# EAGLE library part LM74700QDBVRQ1 (library LM74700QDBVRQ1)
Low Iq, ideal diode controller Source: Datasheet <http://www.ti.com/lit/gpn/LM74700-Q1>
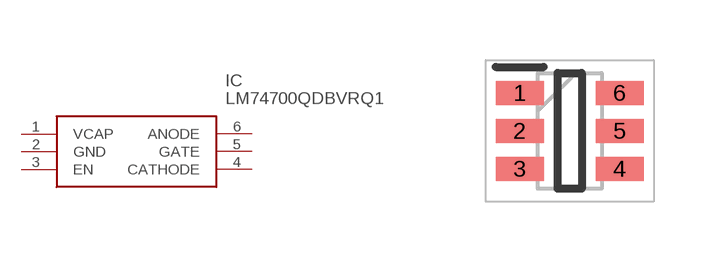
[diagram p0: symbol with the pads of SOT95P280X145-6N; footprint SOT95P280X145-6N]

Designator prefix IC

## LM74700QDBVRQ1 (Description: Low Iq, ideal diode controller; Height: 1.45mm; Manufacturer_Name: Texas Instruments; Manufacturer_Part_Number: LM74700QDBVRQ1; Mouser_Part_Number: 595-LM74700QDBVRQ1; Mouser_Price-Stock: https://www.mouser.co.uk/ProductDetail/Texas-Instruments/LM74700QDBVRQ1?qs=j%252B1pi9TdxUYjAZhGV8eSkQ%3D%3D)  [SOT95P280X145-6N]
1  VCAP
2  GND
3  EN
4  CATHODE
5  GATE
6  ANODE

## Footprint SOT95P280X145-6N (pad centres in mm)
LM74700QDBVRQ1
smd 1.2 x 0.6: 1 -1.25,0.95; 2 -1.25,0; 3 -1.25,-0.95; 4 1.25,-0.95; 5 1.25,0; 6 1.25,0.95